# Altium schematic symbol library SCH - VGA - AD AD8367.SchLib: 1 symbol
Pins are listed as number, name and electrical type; pins without a type are passive.

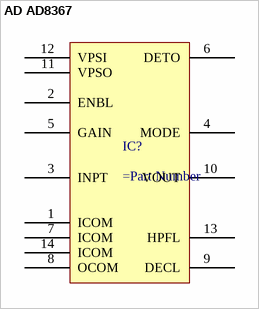
[diagram p0: symbol AD AD8367]

## AD AD8367
designator IC?
pins: 1 ICOM, 2 ENBL, 3 INPT, 4 MODE, 5 GAIN, 6 DETO, 7 ICOM, 8 OCOM, 9 DECL, 10 VOUT, 11 VPSO, 12 VPSI, 13 HPFL, 14 ICOM